# Altium footprint library course.PcbLib: 14 footprints
Each footprint in its own frame and in the unit in brackets; x right, y up, seen from the top. Pads: shape width x height; smd on the part's side, far side on the other; paste and mask are expansions set on the pad; w line width, h text height; cw(c..) or ccw(c..) is an arc to the next point about the centre after c.
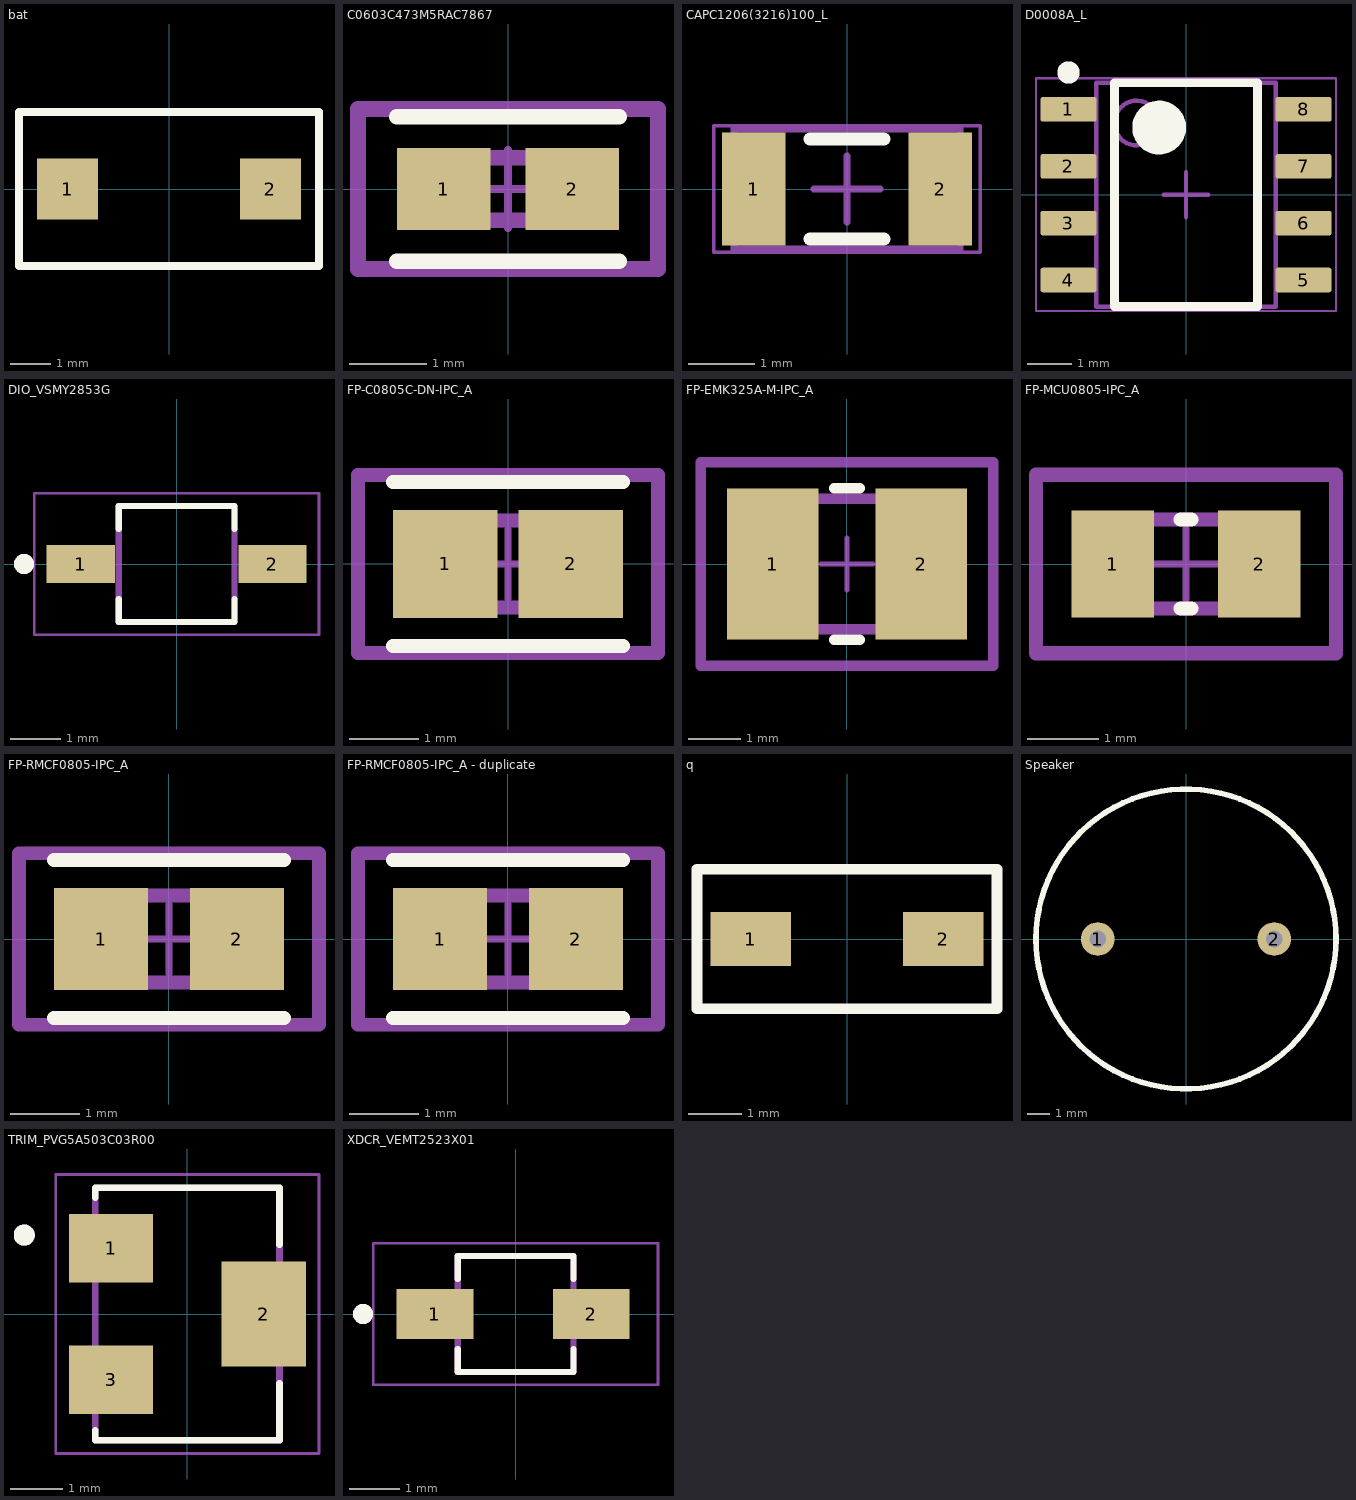
[diagram p0: the footprints below, top view; thin cyan lines are the x and y axes]

## bat [mm]
pads (2):
  rect 1.5x1.5 smd: 1(-2.5,0) 2(2.5,0)
Top Overlay:
  lines w0.2: -3.7,-1.9 -3.7,1.9 3.7,1.9 3.7,-1.9 -3.7,-1.9
3D body "battery.step": height 7, standoff 0, extent -2.75,-1.75 2.75,1.75

## C0603C473M5RAC7867 [mil]
pads (2):
  rect 47.5x41.66 smd paste+0 mask+0: 1(-32.51,0) 2(32.51,0)
Top Overlay:
  lines w7.87: -56.26,-36.58 56.26,-36.58 ; -56.26,36.58 56.26,36.58
Mechanical 5:
  lines w7.87: -75.95,-40.52 75.95,-40.52 75.95,40.52 -75.95,40.52 -75.95,-40.52
  text ".Designator" at 0,7.41 h39.37
Mechanical 13:
  lines w7.87: -31.5,-15.75 31.5,-15.75 31.5,15.75 -31.5,15.75 -31.5,-15.75
Mechanical 15:
  lines w7.87: -75.95,-40.52 75.95,-40.52 75.95,40.52 -75.95,40.52 -75.95,-40.52
Mechanical 16:
  lines w3.94: -19.68,0 19.68,0 ; 0,-19.68 0,19.68
3D body "Cap_KEMET_C0603C272M5JACTU_eec.STEP": height 10, standoff 0, extent -75.95,-40.52 75.95,40.52

## CAPC1206(3216)100_L [mm] "Chip Capacitor, Body 3.2x1.6mm, Height 1mm, IPC High Density"
height 1
pads (2):
  rect 0.95x1.7 smd: 1(-1.4,0) 2(1.4,0)
Top Overlay:
  lines w0.2: -0.55,-0.75 0.55,-0.75 ; -0.55,0.75 0.55,0.75
Mechanical 5:
  text ".Designator" at 0,0.188 h1
Mechanical 13:
  lines w0.1: -1.7,-0.9 -1.7,0.9 1.7,0.9 1.7,-0.9 -1.7,-0.9
Mechanical 15:
  lines w0.05: -2,-0.95 -2,0.95 2,0.95 2,-0.95 -2,-0.95
  lines w0.1: -0.5,0 0.5,0 ; 0,-0.5 0,0.5
3D body: height 1, standoff 0, extent -1.2,-0.9 1.2,0.9
3D body: height 1, standoff 0, extent -1.7,-0.9 -1.2,0.9
3D body: height 1, standoff 0, extent 1.2,-0.9 1.7,0.9

## D0008A_L [mm] "SOIC, 8-Leads, Body 5x4mm, Pitch 1.27mm, IPC High Density"
height 1.75
pads (8):
  rrect18% 1.25x0.55 smd: 1(-2.625,1.905) 2(-2.625,0.635) 3(-2.625,-0.635) 4(-2.625,-1.905) 5(2.625,-1.905) 6(2.625,-0.635) 7(2.625,0.635) 8(2.625,1.905)
Top Overlay:
  circle w0.25: c-2.625,2.73 r0.125
  circle w0.6: c-0.6,1.5 r0.3
  lines w0.2: -1.6,-2.5 -1.6,2.5 1.6,2.5 1.6,-2.5 -1.6,-2.5
Mechanical 1:
  text ".Designator" at -1.397,-0.254 h0.6
Mechanical 13:
  circle w0.1: c-1.1,1.6 r0.5
  lines w0.1: -2,-2.5 -2,2.5 2,2.5 2,-2.5 -2,-2.5
Mechanical 15:
  lines w0.05: -3.35,-2.6 -3.35,2.6 3.35,2.6 3.35,-2.6 -3.35,-2.6
  lines w0.1: -0.5,0 0.5,0 ; 0,-0.5 0,0.5
3D body "SOIC-8akaD0008AakaM08A.stp": height 1.63, standoff 0, extent -3,-2.45 3,2.45

## DIO_VSMY2853G [mm]
pads (2):
  rect 1.35x0.75 smd: 1(-1.9,0) 2(1.9,0)
Top Overlay:
  circle w0.2: c-3.025,0 r0.1
  lines w0.127: -1.15,-0.695 -1.15,-1.15 1.15,-1.15 1.15,-0.695 ; -1.15,0.695 -1.15,1.15 1.15,1.15 1.15,0.695
Mechanical 5:
  text ".Designator" at 0,0.188 h1
Mechanical 13:
  circle w0.2: c-3.025,0 r0.1
  lines w0.127: -1.15,-1.15 -1.15,1.15 1.15,1.15 1.15,-1.15 -1.15,-1.15
Mechanical 15:
  lines w0.05: -2.825,-1.4 2.825,-1.4 2.825,1.4 -2.825,1.4 -2.825,-1.4
3D body "VSMY2853G.STEP": height 2.8, standoff -0.04, extent -2.1,-1.15 2.1,1.15

## FP-C0805C-DN-IPC_A [mm]
pads (2):
  rect 1.505x1.556 smd paste+0 mask+0: 1(-0.901,0) 2(0.901,0)
Top Overlay:
  lines w0.2: -1.653,-1.178 1.653,-1.178 ; -1.653,1.178 1.653,1.178
Mechanical 5:
  lines w0.2: -2.153,-1.278 -2.153,1.278 2.153,1.278 2.153,-1.278 -2.153,-1.278
  text ".Designator" at 0,0.188 h1
Mechanical 13:
  lines w0.2: -1,-0.625 -1,0.625 1,0.625 1,-0.625 -1,-0.625
Mechanical 15:
  lines w0.2: -2.153,-1.278 -2.153,1.278 2.153,1.278 2.153,-1.278 -2.153,-1.278
Mechanical 16:
  lines w0.1: -0.5,0 0.5,0 ; 0,-0.5 0,0.5
3D body "Cap_KEMET_C0805C472J3HAC_eec.STEP": height 0.25, standoff 0, extent -2.153,-1.278 2.153,1.278

## FP-EMK325A-M-IPC_A [mm]
pads (2):
  rect 1.753x2.904 smd paste+0 mask+0: 1(-1.425,0) 2(1.425,0)
Top Overlay:
  lines w0.2: -0.249,-1.452 0.249,-1.452 ; -0.249,1.452 0.249,1.452
Mechanical 5:
  lines w0.2: -2.802,-1.952 -2.802,1.952 2.802,1.952 2.802,-1.952 -2.802,-1.952
  text ".Designator" at 0,0.188 h1
Mechanical 13:
  lines w0.2: -1.6,-1.25 -1.6,1.25 1.6,1.25 1.6,-1.25 -1.6,-1.25
Mechanical 15:
  lines w0.2: -2.802,-1.952 -2.802,1.952 2.802,1.952 2.802,-1.952 -2.802,-1.952
Mechanical 16:
  lines w0.1: -0.5,0 0.5,0 ; 0,-0.5 0,0.5
3D body "Cap_Taiyo_Yuden_EMK325ABJ107MM-T_eec.STEP": height 0.25, standoff 0, extent -2.802,-1.952 2.802,1.952

## FP-MCU0805-IPC_A [mm]
pads (2):
  rect 1.159x1.508 smd paste+0 mask+0: 1(-1.027,0) 2(1.027,0)
Top Overlay:
  lines w0.2: -0.072,-0.625 0.072,-0.625 ; -0.072,0.625 0.072,0.625
Mechanical 5:
  lines w0.2: -2.106,-1.254 -2.106,1.254 2.106,1.254 2.106,-1.254 -2.106,-1.254
  text ".Designator" at 0,0.188 h1
Mechanical 13:
  lines w0.2: -1,-0.625 -1,0.625 1,0.625 1,-0.625 -1,-0.625
Mechanical 15:
  lines w0.2: -2.106,-1.254 -2.106,1.254 2.106,1.254 2.106,-1.254 -2.106,-1.254
Mechanical 16:
  lines w0.1: -0.5,0 0.5,0 ; 0,-0.5 0,0.5
3D body "Res_Vishay_MCU08050D2210BP100_eec.STEP": height 0.25, standoff 0, extent -2.106,-1.254 2.106,1.254

## FP-RMCF0805-IPC_A [mm]
pads (2):
  rect 1.355x1.462 smd paste+0 mask+0: 1(-0.976,0) 2(0.976,0)
Top Overlay:
  lines w0.2: -1.653,-1.131 1.653,-1.131 ; -1.653,1.131 1.653,1.131
Mechanical 5:
  lines w0.2: -2.153,-1.231 2.153,-1.231 2.153,1.231 -2.153,1.231 -2.153,-1.231
  text ".Designator" at 0,0.188 h1
Mechanical 13:
  lines w0.2: -1,-0.625 1,-0.625 1,0.625 -1,0.625 -1,-0.625
Mechanical 15:
  lines w0.2: -2.153,-1.231 2.153,-1.231 2.153,1.231 -2.153,1.231 -2.153,-1.231
Mechanical 16:
  lines w0.1: -0.5,0 0.5,0 ; 0,-0.5 0,0.5
3D body "Res_Stackpole_Electronics_RMCF0805JT220K_eec.STEP": height 0.25, standoff 0, extent -2.153,-1.231 2.153,1.231

## FP-RMCF0805-IPC_A - duplicate [mm]
pads (2):
  rect 1.355x1.462 smd paste+0 mask+0: 1(-0.976,0) 2(0.976,0)
Top Overlay:
  lines w0.2: -1.653,-1.131 1.653,-1.131 ; -1.653,1.131 1.653,1.131
Mechanical 5:
  lines w0.2: -2.153,-1.231 2.153,-1.231 2.153,1.231 -2.153,1.231 -2.153,-1.231
  text ".Designator" at 0,0.188 h1
Mechanical 13:
  lines w0.2: -1,-0.625 1,-0.625 1,0.625 -1,0.625 -1,-0.625
Mechanical 15:
  lines w0.2: -2.153,-1.231 2.153,-1.231 2.153,1.231 -2.153,1.231 -2.153,-1.231
Mechanical 16:
  lines w0.1: -0.5,0 0.5,0 ; 0,-0.5 0,0.5
3D body "Res_Stackpole_Electronics_RMCF0805JT220K_eec.STEP": height 0.25, standoff 0, extent -2.153,-1.231 2.153,1.231

## q [mm]
pads (2):
  rect 1.5x1 smd: 1(-1.8,0) 2(1.8,0)
Top Overlay:
  lines w0.2: -2.8,-1.3 2.8,-1.3 2.8,1.3 -2.8,1.3 -2.8,-1.3
3D body "VEMT2523X01.STEP": height 2.8, standoff -0.04, extent -2.1,-1.15 2.1,1.15

## Speaker [mil]
pads (2):
  round 60 hole 30: 1(-157.48,0) 2(157.48,0)
Top Overlay:
  circle w10: c0,0 r267.72
3D body "speak v1.step": height 295.28, standoff -208.66, extent -271.65,-271.65 271.66,271.66

## TRIM_PVG5A503C03R00 [mm]
pads (3):
  rect 1.6x1.3 smd: 1(-1.45,1.25) 3(-1.45,-1.25)
  rect 1.6x2 smd: 2(1.45,0)
Top Overlay:
  circle w0.2: c-3.1,1.5 r0.1
  lines w0.127: -1.75,-2.215 -1.75,-2.4 1.75,-2.4 1.75,-1.315 ; -1.75,2.215 -1.75,2.4 1.75,2.4 1.75,1.315
Mechanical 5:
  text ".Designator" at 0,0.188 h1
Mechanical 13:
  circle w0.2: c-3.1,1.5 r0.1
  lines w0.127: -1.75,-2.4 1.75,-2.4 1.75,2.4 -1.75,2.4 -1.75,-2.4
Mechanical 15:
  lines w0.05: -2.5,-2.65 2.5,-2.65 2.5,2.65 -2.5,2.65 -2.5,-2.65
3D body "PVG5A503C03R00.STEP": height 5.3, standoff 0, extent -1.95,-2.4 1.95,2.4

## XDCR_VEMT2523X01 [mm]
pads (2):
  rect 1.524x1 smd: 1(-1.6,0) 2(1.5,0)
Top Overlay:
  circle w0.2: c-3.025,0 r0.1
  lines w0.127: -1.15,-0.695 -1.15,-1.15 1.15,-1.15 1.15,-0.695 ; -1.15,0.695 -1.15,1.15 1.15,1.15 1.15,0.695
Mechanical 5:
  text ".Designator" at 0,0.188 h1
Mechanical 13:
  circle w0.2: c-3.025,0 r0.1
  lines w0.127: -1.15,-1.15 -1.15,1.15 1.15,1.15 1.15,-1.15 -1.15,-1.15
Mechanical 15:
  lines w0.05: -2.825,-1.4 2.825,-1.4 2.825,1.4 -2.825,1.4 -2.825,-1.4
3D body "VEMT2523X01.STEP": height 2.8, standoff -0.04, extent -2.1,-1.15 2.1,1.15